# Altium schematic symbol library Maxim.SchLib: 5 symbols
Pins are listed as number, name and electrical type; pins without a type are passive.

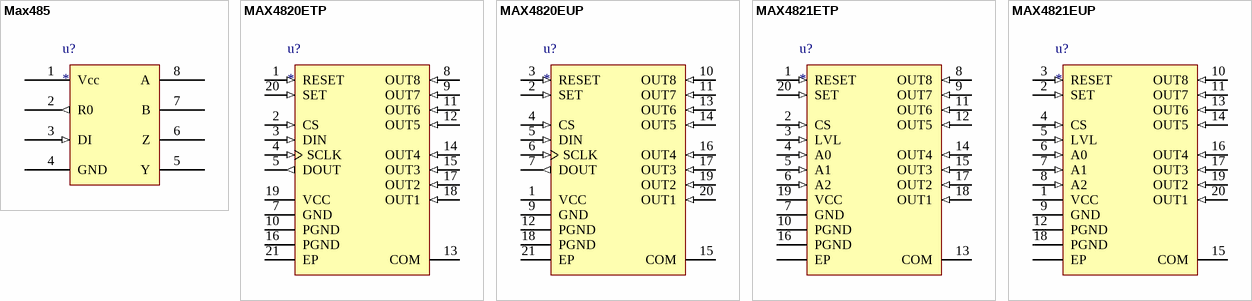
[diagram p0: symbols Max485 to MAX4821EUP]

## Max485
designator u?
footprint SOIC8N (SOIC8 Package, 127 Pitch, 390x490 Dimensions)
pins: 1 Vcc (power), 2 R0 (out), 3 DI (in), 4 GND (power), 5 Y (power), 6 Z (power), 7 B (power), 8 A (power)

## MAX4820ETP
designator u?
20 TQFN-EP
footprint TQFN-20
pins: 0 EP (in) hidden to GND, 1 RESET (in), 2 CS (in), 3 DIN (in), 4 SCLK (in), 5 DOUT (out), 7 GND (power), 8 OUT8 (in), 9 OUT7 (in), 10 PGND (power), 11 OUT6 (in), 12 OUT5 (in), 13 COM (power), 14 OUT4 (in), 15 OUT3 (in), 16 PGND (power), 17 OUT2 (in), 18 OUT1 (in), 19 VCC (power), 20 SET (in), 21 EP (power)

## MAX4820EUP
designator u?
20 TSSOP-EP
footprint TSSOP-20
pins: 0 EP (in) hidden to GND, 1 VCC (power), 2 SET (in), 3 RESET (in), 4 CS (in), 5 DIN (in), 6 SCLK (in), 7 DOUT (out), 9 GND (power), 10 OUT8 (in), 11 OUT7 (in), 12 PGND (power), 13 OUT6 (in), 14 OUT5 (in), 15 COM (power), 16 OUT4 (in), 17 OUT3 (in), 18 PGND (power), 19 OUT2 (in), 20 OUT1 (in), 21 EP (power)

## MAX4821ETP
designator u?
20 TQFN-EP
footprint TQFN-20 (QFN, 20-Leads, Body 4,00x4,00mm, Pitch 0,50mm, Thermal Pad 2,10x2,10mm, IPC Medium Density)
pins: 0 EP (in) hidden to GND, 0 EP (power), 1 RESET (in), 2 CS (in), 3 LVL (in), 4 A0 (in), 5 A1 (in), 6 A2 (in), 7 GND (power), 8 OUT8 (in), 9 OUT7 (in), 10 PGND (power), 11 OUT6 (in), 12 OUT5 (in), 13 COM (power), 14 OUT4 (in), 15 OUT3 (in), 16 PGND (power), 17 OUT2 (in), 18 OUT1 (in), 19 VCC (power), 20 SET (in)

## MAX4821EUP
designator u?
20 TSSOP-EP
footprint TSSOP-20
pins: 0 EP (in) hidden to GND, 0 EP (power), 1 VCC (power), 2 SET (in), 3 RESET (in), 4 CS (in), 5 LVL (in), 6 A0 (in), 7 A1 (in), 8 A2 (in), 9 GND (power), 10 OUT8 (in), 11 OUT7 (in), 12 PGND (power), 13 OUT6 (in), 14 OUT5 (in), 15 COM (power), 16 OUT4 (in), 17 OUT3 (in), 18 PGND (power), 19 OUT2 (in), 20 OUT1 (in)